# EAGLE library part AK700/10-5.0-V-GREEN (library con-ptr-AK700)
PCB Screw Terminal AK700, 10-pin 5.0 pitch
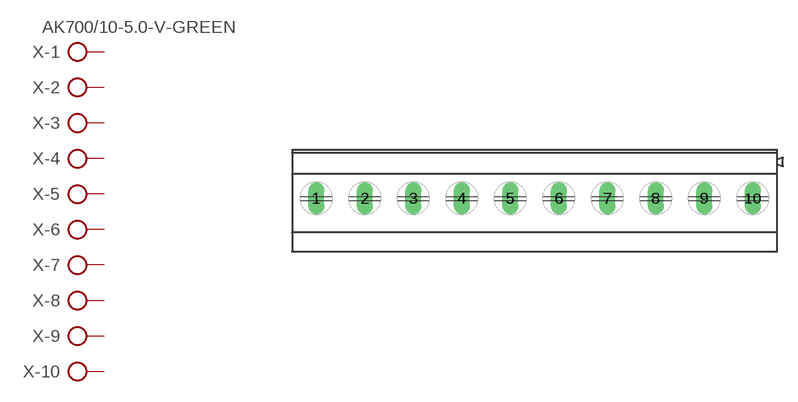
[diagram p4: symbol with the pads of AK700/10-5.0-V-GREEN; footprint AK700/10-5.0-V-GREEN]

Designator prefix X; gates -1=KLV -2=KL -3=KL -4=KL -5=KL -6=KL -7=KL -8=KL -9=KL -10=KL

## AK700/10-5.0-V-GREEN (MF: PTR Hartmann; MPN: 50700100201)  [AK700/10-5.0-V-GREEN]
1  -1:KL  pas
2  -2:KL  pas
3  -3:KL  pas
4  -4:KL  pas
5  -5:KL  pas
6  -6:KL  pas
7  -7:KL  pas
8  -8:KL  pas
9  -9:KL  pas
10  -10:KL  pas

## Footprint AK700/10-5.0-V-GREEN (pad centres in mm)
PCB Screw Terminal AK700, 10-pin 5.0 pitch
drill 1.1 long: 1 -22.5,0; 2 -17.5,0; 3 -12.5,0; 4 -7.5,0; 5 -2.5,0; 6 2.5,0; 7 7.5,0; 8 12.5,0; 9 17.5,0; 10 22.5,0